# EAGLE library part EC11J1524413 (library tecsmith_keyboards)
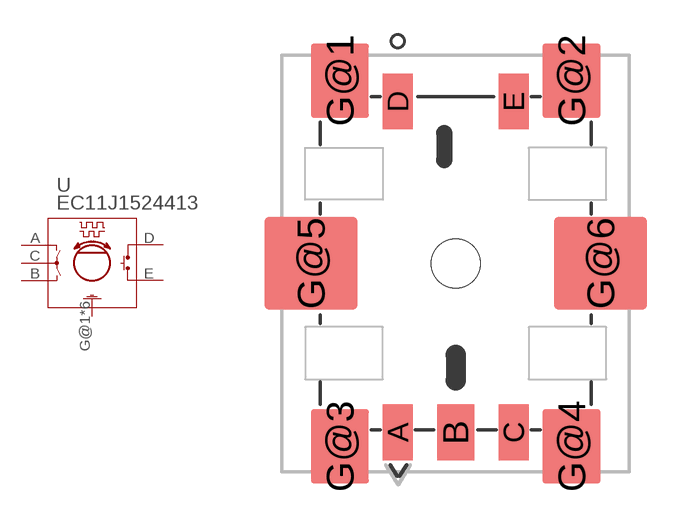
[diagram p5: symbol with the pads of ROTARY_EC11J; footprint ROTARY_EC11J]

Designator prefix -

## EC11J1524413  [ROTARY_EC11J]
A  A  pas
B  B  pas
C  C  pas
D  D  pas
E  E  pas
G@1  GND  pas
G@2  GND  pas
G@3  GND  pas
G@4  GND  pas
G@5  GND  pas
G@6  GND  pas

## Footprint ROTARY_EC11J (pad centres in mm)
smd 1.3 x 2.4: A -2.5,-7.3; C 2.5,-7.3; D -2.5,7; E 2.5,7
smd 1.6 x 2.4: B 0,-7.3
smd 2.5 x 3.2: G@1 -5,7.9; G@2 5,7.9; G@3 -5,-7.9; G@4 5,-7.9
smd 4 x 4: G@5 -6.25,0; G@6 6.25,0
hole 2.1 at 0,0
hole 0.65 at -0.5,5.625
hole 0.65 at -0.5,4.475
hole 0.8 at 0,-3.95
hole 0.8 at 0,-5.05